# Altium footprint library 21991194.PcbLib: 1 footprints
Each footprint in its own frame and in the unit in brackets; x right, y up, seen from the top. Pads: shape width x height; smd on the part's side, far side on the other; paste and mask are expansions set on the pad; w line width, h text height; cw(c..) or ccw(c..) is an arc to the next point about the centre after c.
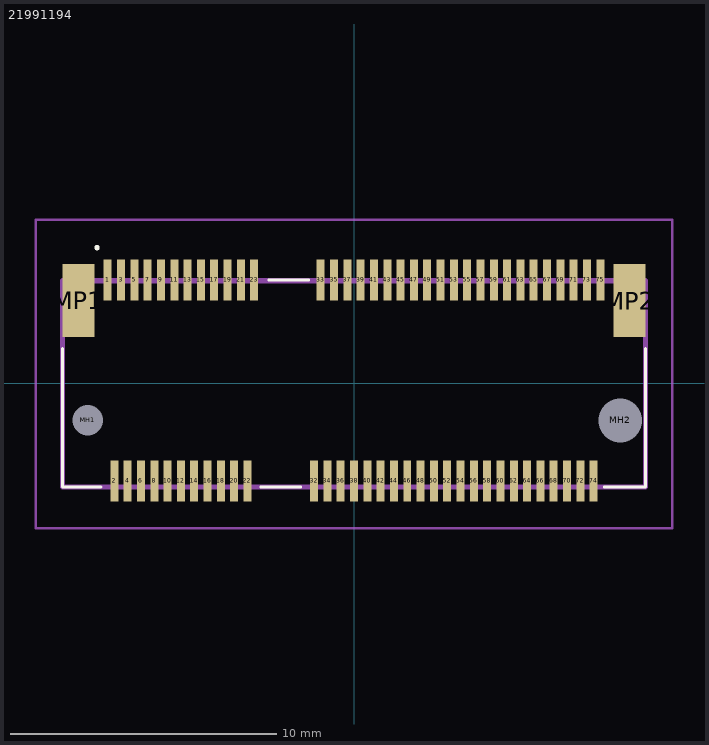
[diagram p0: the footprint, top view; thin cyan lines are the x and y axes]

## 21991194 [mm]
pads (71):
  rect 0.3x1.55 smd: 1(-9.25,3.888) 2(-9,-3.662) 3(-8.75,3.888) 4(-8.5,-3.662) 5(-8.25,3.888) 6(-8,-3.662) 7(-7.75,3.888) 8(-7.5,-3.662) 9(-7.25,3.888) 10(-7,-3.662) 11(-6.75,3.888) 12(-6.5,-3.662) 13(-6.25,3.888) 14(-6,-3.662) 15(-5.75,3.888) 16(-5.5,-3.662) 17(-5.25,3.888) 18(-5,-3.662) 19(-4.75,3.888) 20(-4.5,-3.662) 21(-4.25,3.888) 22(-4,-3.662) 23(-3.75,3.888) 32(-1.5,-3.662) 33(-1.25,3.888) 34(-1,-3.662) 35(-0.75,3.888) 36(-0.5,-3.662) 37(-0.25,3.888) 38(0,-3.662) 39(0.25,3.888) 40(0.5,-3.662) 41(0.75,3.888) 42(1,-3.662) 43(1.25,3.888) 44(1.5,-3.662) 45(1.75,3.888) 46(2,-3.662) 47(2.25,3.888) 48(2.5,-3.662) 49(2.75,3.888) 50(3,-3.662) 51(3.25,3.888) 52(3.5,-3.662) 53(3.75,3.888) 54(4,-3.662) 55(4.25,3.888) 56(4.5,-3.662) 57(4.75,3.888) 58(5,-3.662) 59(5.25,3.888) 60(5.5,-3.662) 61(5.75,3.888) 62(6,-3.662) 63(6.25,3.888) 64(6.5,-3.662) 65(6.75,3.888) 66(7,-3.662) 67(7.25,3.888) 68(7.5,-3.662) 69(7.75,3.888) 70(8,-3.662) 71(8.25,3.888) 72(8.5,-3.662) 73(8.75,3.888) 74(9,-3.662) 75(9.25,3.888)
  round 0.575 hole 1.15 unplated: MH1(-10,-1.387)
  round 0.825 hole 1.65 unplated: MH2(10,-1.387)
  rect 1.2x2.75 smd: MP1(-10.35,3.112) MP2(10.35,3.112)
Top Overlay:
  lines w0.1: -10.95,1.312 -10.95,-3.888 -9.5,-3.888 ; -3.5,-3.888 -2,-3.888 ; -3.2,3.888 -1.7,3.888 ; 9.4,-3.888 10.95,-3.888 10.95,1.312 ; -9.7,5.1 cw(c-9.65,5.1) -9.6,5.1 ; -9.7,5.1 -9.7,5.1 ; -9.7,5.1 ccw(c-9.65,5.1) -9.6,5.1 ; -9.6,5.1 -9.6,5.1
Mechanical 15:
  lines w0.2: -10.95,-3.888 10.95,-3.888 10.95,3.862 -10.95,3.862 -10.95,-3.888
Mechanical 20:
  lines w0.1: -11.95,-5.438 11.95,-5.438 11.95,6.15 -11.95,6.15 -11.95,-5.438